# Altium footprint library VOU_SOM_CV_V0.0.1.PcbLib: 27 footprints (part 1 of 2)
Each footprint in its own frame and in the unit in brackets; x right, y up, seen from the top. Pads: shape width x height; smd on the part's side, far side on the other; paste and mask are expansions set on the pad; w line width, h text height; cw(c..) or ccw(c..) is an arc to the next point about the centre after c.
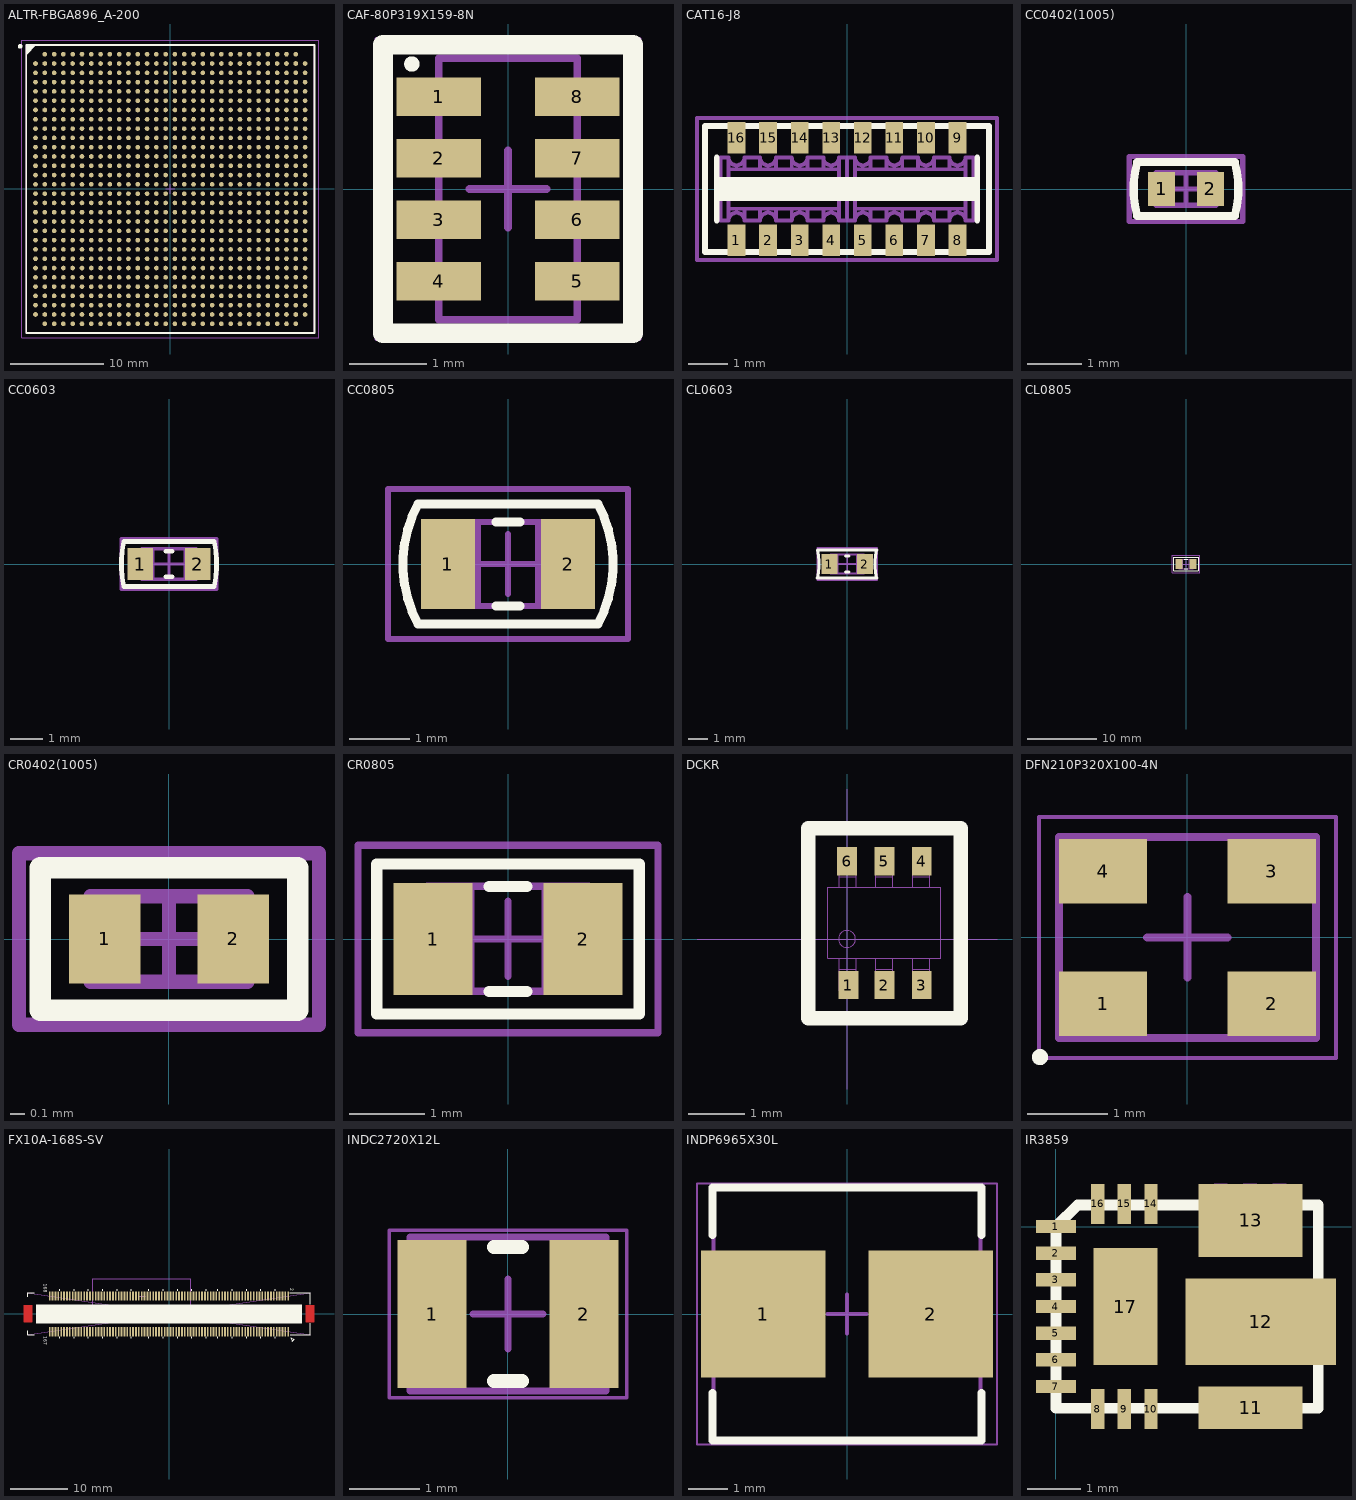
[diagram p0: the footprints below, top view; thin cyan lines are the x and y axes]

## ALTR-FBGA896_A-200 [mm]
pads (896):
  round 0.5 smd: A2(-13.5,14.5) A3(-12.5,14.5) A4(-11.5,14.5) A5(-10.5,14.5) A6(-9.5,14.5) A7(-8.5,14.5) A8(-7.5,14.5) A9(-6.5,14.5) A10(-5.5,14.5) A11(-4.5,14.5) A12(-3.5,14.5) A13(-2.5,14.5) A14(-1.5,14.5) A15(-0.5,14.5) A16(0.5,14.5) A17(1.5,14.5) A18(2.5,14.5) A19(3.5,14.5) A20(4.5,14.5) A21(5.5,14.5) A22(6.5,14.5) A23(7.5,14.5) A24(8.5,14.5) A25(9.5,14.5) A26(10.5,14.5) A27(11.5,14.5) A28(12.5,14.5) A29(13.5,14.5) AA1(-14.5,-5.5) AA2(-13.5,-5.5) AA3(-12.5,-5.5) AA4(-11.5,-5.5) AA5(-10.5,-5.5) AA6(-9.5,-5.5) AA7(-8.5,-5.5) AA8(-7.5,-5.5) AA9(-6.5,-5.5) AA10(-5.5,-5.5) AA11(-4.5,-5.5) AA12(-3.5,-5.5) AA13(-2.5,-5.5) AA14(-1.5,-5.5) AA15(-0.5,-5.5) AA16(0.5,-5.5) AA17(1.5,-5.5) AA18(2.5,-5.5) AA19(3.5,-5.5) AA20(4.5,-5.5) AA21(5.5,-5.5) AA22(6.5,-5.5) AA23(7.5,-5.5) AA24(8.5,-5.5) AA25(9.5,-5.5) AA26(10.5,-5.5) AA27(11.5,-5.5) AA28(12.5,-5.5) AA29(13.5,-5.5) AA30(14.5,-5.5) AB1(-14.5,-6.5) AB2(-13.5,-6.5) AB3(-12.5,-6.5) AB4(-11.5,-6.5) AB5(-10.5,-6.5) AB6(-9.5,-6.5) AB7(-8.5,-6.5) AB8(-7.5,-6.5) AB9(-6.5,-6.5) AB10(-5.5,-6.5) AB11(-4.5,-6.5) AB12(-3.5,-6.5) AB13(-2.5,-6.5) AB14(-1.5,-6.5) AB15(-0.5,-6.5) AB16(0.5,-6.5) AB17(1.5,-6.5) AB18(2.5,-6.5) AB19(3.5,-6.5) AB20(4.5,-6.5) AB21(5.5,-6.5) AB22(6.5,-6.5) AB23(7.5,-6.5) AB24(8.5,-6.5) AB25(9.5,-6.5) AB26(10.5,-6.5) AB27(11.5,-6.5) AB28(12.5,-6.5) AB29(13.5,-6.5) AB30(14.5,-6.5) AC1(-14.5,-7.5) AC2(-13.5,-7.5) AC3(-12.5,-7.5) AC4(-11.5,-7.5) AC5(-10.5,-7.5) AC6(-9.5,-7.5) AC7(-8.5,-7.5) AC8(-7.5,-7.5) AC9(-6.5,-7.5) AC10(-5.5,-7.5) AC11(-4.5,-7.5) AC12(-3.5,-7.5) AC13(-2.5,-7.5) AC14(-1.5,-7.5) AC15(-0.5,-7.5) AC16(0.5,-7.5) AC17(1.5,-7.5) AC18(2.5,-7.5) AC19(3.5,-7.5) AC20(4.5,-7.5) AC21(5.5,-7.5) AC22(6.5,-7.5) AC23(7.5,-7.5) AC24(8.5,-7.5) AC25(9.5,-7.5) AC26(10.5,-7.5) AC27(11.5,-7.5) AC28(12.5,-7.5) AC29(13.5,-7.5) AC30(14.5,-7.5) AD1(-14.5,-8.5) AD2(-13.5,-8.5) AD3(-12.5,-8.5) AD4(-11.5,-8.5) AD5(-10.5,-8.5) AD6(-9.5,-8.5) AD7(-8.5,-8.5) AD8(-7.5,-8.5) AD9(-6.5,-8.5) AD10(-5.5,-8.5) AD11(-4.5,-8.5) AD12(-3.5,-8.5) AD13(-2.5,-8.5) AD14(-1.5,-8.5) AD15(-0.5,-8.5) AD16(0.5,-8.5) AD17(1.5,-8.5) AD18(2.5,-8.5) AD19(3.5,-8.5) AD20(4.5,-8.5) AD21(5.5,-8.5) AD22(6.5,-8.5) AD23(7.5,-8.5) AD24(8.5,-8.5) AD25(9.5,-8.5) AD26(10.5,-8.5) AD27(11.5,-8.5) AD28(12.5,-8.5) AD29(13.5,-8.5) AD30(14.5,-8.5) AE1(-14.5,-9.5) AE2(-13.5,-9.5) AE3(-12.5,-9.5) AE4(-11.5,-9.5) AE5(-10.5,-9.5) AE6(-9.5,-9.5) AE7(-8.5,-9.5) AE8(-7.5,-9.5) AE9(-6.5,-9.5) AE10(-5.5,-9.5) AE11(-4.5,-9.5) AE12(-3.5,-9.5) AE13(-2.5,-9.5) AE14(-1.5,-9.5) AE15(-0.5,-9.5) AE16(0.5,-9.5) AE17(1.5,-9.5) AE18(2.5,-9.5) AE19(3.5,-9.5) AE20(4.5,-9.5) AE21(5.5,-9.5) AE22(6.5,-9.5) AE23(7.5,-9.5) AE24(8.5,-9.5) AE25(9.5,-9.5) AE26(10.5,-9.5) AE27(11.5,-9.5) AE28(12.5,-9.5) AE29(13.5,-9.5) AE30(14.5,-9.5) AF1(-14.5,-10.5) AF2(-13.5,-10.5) AF3(-12.5,-10.5) AF4(-11.5,-10.5) AF5(-10.5,-10.5) AF6(-9.5,-10.5) AF7(-8.5,-10.5) AF8(-7.5,-10.5) AF9(-6.5,-10.5) AF10(-5.5,-10.5) AF11(-4.5,-10.5) AF12(-3.5,-10.5) AF13(-2.5,-10.5) AF14(-1.5,-10.5) AF15(-0.5,-10.5) AF16(0.5,-10.5) AF17(1.5,-10.5) AF18(2.5,-10.5) AF19(3.5,-10.5) AF20(4.5,-10.5) AF21(5.5,-10.5) AF22(6.5,-10.5) AF23(7.5,-10.5) AF24(8.5,-10.5) AF25(9.5,-10.5) AF26(10.5,-10.5) AF27(11.5,-10.5) AF28(12.5,-10.5) AF29(13.5,-10.5) AF30(14.5,-10.5) AG1(-14.5,-11.5) AG2(-13.5,-11.5) AG3(-12.5,-11.5) AG4(-11.5,-11.5) AG5(-10.5,-11.5) AG6(-9.5,-11.5) AG7(-8.5,-11.5) AG8(-7.5,-11.5) AG9(-6.5,-11.5) AG10(-5.5,-11.5) AG11(-4.5,-11.5) AG12(-3.5,-11.5) AG13(-2.5,-11.5) AG14(-1.5,-11.5) AG15(-0.5,-11.5) AG16(0.5,-11.5) AG17(1.5,-11.5) AG18(2.5,-11.5) AG19(3.5,-11.5) AG20(4.5,-11.5) AG21(5.5,-11.5) AG22(6.5,-11.5) AG23(7.5,-11.5) AG24(8.5,-11.5) AG25(9.5,-11.5) AG26(10.5,-11.5) AG27(11.5,-11.5) AG28(12.5,-11.5) AG29(13.5,-11.5) AG30(14.5,-11.5) AH1(-14.5,-12.5) AH2(-13.5,-12.5) AH3(-12.5,-12.5) AH4(-11.5,-12.5) AH5(-10.5,-12.5) AH6(-9.5,-12.5) AH7(-8.5,-12.5) AH8(-7.5,-12.5) AH9(-6.5,-12.5) AH10(-5.5,-12.5) AH11(-4.5,-12.5) AH12(-3.5,-12.5) AH13(-2.5,-12.5) AH14(-1.5,-12.5) AH15(-0.5,-12.5) AH16(0.5,-12.5) AH17(1.5,-12.5) AH18(2.5,-12.5) AH19(3.5,-12.5) AH20(4.5,-12.5) AH21(5.5,-12.5) AH22(6.5,-12.5) AH23(7.5,-12.5) AH24(8.5,-12.5) AH25(9.5,-12.5) AH26(10.5,-12.5) AH27(11.5,-12.5) AH28(12.5,-12.5) AH29(13.5,-12.5) AH30(14.5,-12.5) AJ1(-14.5,-13.5) AJ2(-13.5,-13.5) AJ3(-12.5,-13.5) AJ4(-11.5,-13.5) AJ5(-10.5,-13.5) AJ6(-9.5,-13.5) AJ7(-8.5,-13.5) AJ8(-7.5,-13.5) AJ9(-6.5,-13.5) AJ10(-5.5,-13.5) AJ11(-4.5,-13.5) AJ12(-3.5,-13.5) AJ13(-2.5,-13.5) AJ14(-1.5,-13.5) AJ15(-0.5,-13.5) AJ16(0.5,-13.5) AJ17(1.5,-13.5) AJ18(2.5,-13.5) AJ19(3.5,-13.5) AJ20(4.5,-13.5) AJ21(5.5,-13.5) AJ22(6.5,-13.5) AJ23(7.5,-13.5) AJ24(8.5,-13.5) AJ25(9.5,-13.5) AJ26(10.5,-13.5) AJ27(11.5,-13.5) AJ28(12.5,-13.5) AJ29(13.5,-13.5) AJ30(14.5,-13.5) AK2(-13.5,-14.5) AK3(-12.5,-14.5) AK4(-11.5,-14.5) AK5(-10.5,-14.5) AK6(-9.5,-14.5) AK7(-8.5,-14.5) AK8(-7.5,-14.5) AK9(-6.5,-14.5) AK10(-5.5,-14.5) AK11(-4.5,-14.5) AK12(-3.5,-14.5) AK13(-2.5,-14.5) AK14(-1.5,-14.5) AK15(-0.5,-14.5) AK16(0.5,-14.5) AK17(1.5,-14.5) AK18(2.5,-14.5) AK19(3.5,-14.5) AK20(4.5,-14.5) AK21(5.5,-14.5) AK22(6.5,-14.5) AK23(7.5,-14.5) AK24(8.5,-14.5) AK25(9.5,-14.5) AK26(10.5,-14.5) AK27(11.5,-14.5) AK28(12.5,-14.5) AK29(13.5,-14.5) B1(-14.5,13.5) B2(-13.5,13.5) B3(-12.5,13.5) B4(-11.5,13.5) B5(-10.5,13.5) B6(-9.5,13.5) B7(-8.5,13.5) B8(-7.5,13.5) B9(-6.5,13.5) B10(-5.5,13.5) B11(-4.5,13.5) B12(-3.5,13.5) B13(-2.5,13.5) B14(-1.5,13.5) B15(-0.5,13.5) B16(0.5,13.5) B17(1.5,13.5) B18(2.5,13.5) B19(3.5,13.5) B20(4.5,13.5) B21(5.5,13.5) B22(6.5,13.5) B23(7.5,13.5) B24(8.5,13.5) B25(9.5,13.5) B26(10.5,13.5) B27(11.5,13.5) B28(12.5,13.5) B29(13.5,13.5) B30(14.5,13.5) C1(-14.5,12.5) C2(-13.5,12.5) C3(-12.5,12.5) C4(-11.5,12.5) C5(-10.5,12.5) C6(-9.5,12.5) C7(-8.5,12.5) C8(-7.5,12.5) C9(-6.5,12.5) C10(-5.5,12.5) C11(-4.5,12.5) C12(-3.5,12.5) C13(-2.5,12.5) C14(-1.5,12.5) C15(-0.5,12.5) C16(0.5,12.5) C17(1.5,12.5) C18(2.5,12.5) C19(3.5,12.5) C20(4.5,12.5) C21(5.5,12.5) C22(6.5,12.5) C23(7.5,12.5) C24(8.5,12.5) C25(9.5,12.5) C26(10.5,12.5) C27(11.5,12.5) C28(12.5,12.5) C29(13.5,12.5) C30(14.5,12.5) D1(-14.5,11.5) D2(-13.5,11.5) D3(-12.5,11.5) D4(-11.5,11.5) D5(-10.5,11.5) D6(-9.5,11.5) D7(-8.5,11.5) D8(-7.5,11.5) D9(-6.5,11.5) D10(-5.5,11.5) D11(-4.5,11.5) D12(-3.5,11.5) D13(-2.5,11.5) D14(-1.5,11.5) D15(-0.5,11.5) D16(0.5,11.5) D17(1.5,11.5) D18(2.5,11.5) D19(3.5,11.5) D20(4.5,11.5) D21(5.5,11.5) D22(6.5,11.5) D23(7.5,11.5) D24(8.5,11.5) D25(9.5,11.5) D26(10.5,11.5) D27(11.5,11.5) D28(12.5,11.5) D29(13.5,11.5) D30(14.5,11.5) E1(-14.5,10.5) E2(-13.5,10.5) E3(-12.5,10.5) E4(-11.5,10.5) E5(-10.5,10.5) E6(-9.5,10.5) E7(-8.5,10.5) E8(-7.5,10.5) E9(-6.5,10.5) E10(-5.5,10.5) E11(-4.5,10.5) E12(-3.5,10.5) E13(-2.5,10.5) E14(-1.5,10.5) E15(-0.5,10.5) E16(0.5,10.5) E17(1.5,10.5) E18(2.5,10.5) E19(3.5,10.5) E20(4.5,10.5) E21(5.5,10.5) E22(6.5,10.5) E23(7.5,10.5) E24(8.5,10.5) E25(9.5,10.5) E26(10.5,10.5) E27(11.5,10.5) E28(12.5,10.5) E29(13.5,10.5) E30(14.5,10.5) F1(-14.5,9.5) F2(-13.5,9.5) F3(-12.5,9.5) F4(-11.5,9.5) F5(-10.5,9.5) F6(-9.5,9.5) F7(-8.5,9.5) F8(-7.5,9.5) F9(-6.5,9.5) F10(-5.5,9.5) F11(-4.5,9.5) F12(-3.5,9.5) F13(-2.5,9.5) F14(-1.5,9.5) F15(-0.5,9.5) F16(0.5,9.5) F17(1.5,9.5) F18(2.5,9.5) F19(3.5,9.5) F20(4.5,9.5) F21(5.5,9.5) F22(6.5,9.5) F23(7.5,9.5) F24(8.5,9.5) F25(9.5,9.5) F26(10.5,9.5) F27(11.5,9.5) F28(12.5,9.5) F29(13.5,9.5) F30(14.5,9.5) G1(-14.5,8.5) G2(-13.5,8.5) G3(-12.5,8.5) G4(-11.5,8.5) G5(-10.5,8.5) G6(-9.5,8.5) G7(-8.5,8.5) G8(-7.5,8.5) G9(-6.5,8.5) G10(-5.5,8.5) G11(-4.5,8.5) G12(-3.5,8.5) G13(-2.5,8.5) G14(-1.5,8.5) G15(-0.5,8.5) G16(0.5,8.5) G17(1.5,8.5) G18(2.5,8.5) G19(3.5,8.5) G20(4.5,8.5) G21(5.5,8.5) G22(6.5,8.5) G23(7.5,8.5) G24(8.5,8.5) G25(9.5,8.5) G26(10.5,8.5) G27(11.5,8.5) G28(12.5,8.5) G29(13.5,8.5) G30(14.5,8.5) H1(-14.5,7.5) H2(-13.5,7.5) H3(-12.5,7.5) H4(-11.5,7.5) H5(-10.5,7.5) H6(-9.5,7.5) H7(-8.5,7.5) H8(-7.5,7.5) H9(-6.5,7.5) H10(-5.5,7.5) H11(-4.5,7.5) H12(-3.5,7.5) H13(-2.5,7.5) H14(-1.5,7.5) H15(-0.5,7.5) H16(0.5,7.5) H17(1.5,7.5) H18(2.5,7.5) H19(3.5,7.5) H20(4.5,7.5) H21(5.5,7.5) H22(6.5,7.5) H23(7.5,7.5) H24(8.5,7.5) H25(9.5,7.5) H26(10.5,7.5) H27(11.5,7.5) H28(12.5,7.5) H29(13.5,7.5) H30(14.5,7.5) J1(-14.5,6.5) J2(-13.5,6.5) J3(-12.5,6.5) J4(-11.5,6.5) J5(-10.5,6.5) J6(-9.5,6.5) J7(-8.5,6.5) J8(-7.5,6.5) J9(-6.5,6.5) J10(-5.5,6.5) J11(-4.5,6.5) J12(-3.5,6.5) J13(-2.5,6.5) J14(-1.5,6.5) J15(-0.5,6.5) J16(0.5,6.5) J17(1.5,6.5) J18(2.5,6.5) J19(3.5,6.5) J20(4.5,6.5) J21(5.5,6.5) J22(6.5,6.5) J23(7.5,6.5) J24(8.5,6.5) J25(9.5,6.5) J26(10.5,6.5) J27(11.5,6.5) J28(12.5,6.5) J29(13.5,6.5) J30(14.5,6.5) K1(-14.5,5.5) K2(-13.5,5.5) K3(-12.5,5.5) K4(-11.5,5.5) K5(-10.5,5.5) K6(-9.5,5.5) K7(-8.5,5.5) K8(-7.5,5.5) K9(-6.5,5.5) K10(-5.5,5.5) K11(-4.5,5.5) K12(-3.5,5.5) K13(-2.5,5.5) K14(-1.5,5.5) K15(-0.5,5.5) K16(0.5,5.5) K17(1.5,5.5) K18(2.5,5.5) K19(3.5,5.5) K20(4.5,5.5) K21(5.5,5.5) K22(6.5,5.5) K23(7.5,5.5) K24(8.5,5.5) K25(9.5,5.5) K26(10.5,5.5) K27(11.5,5.5) K28(12.5,5.5) K29(13.5,5.5) K30(14.5,5.5) L1(-14.5,4.5) L2(-13.5,4.5) L3(-12.5,4.5) L4(-11.5,4.5) L5(-10.5,4.5) L6(-9.5,4.5) L7(-8.5,4.5) L8(-7.5,4.5) L9(-6.5,4.5) L10(-5.5,4.5) L11(-4.5,4.5) L12(-3.5,4.5) L13(-2.5,4.5) L14(-1.5,4.5) L15(-0.5,4.5) L16(0.5,4.5) L17(1.5,4.5) L18(2.5,4.5) L19(3.5,4.5) L20(4.5,4.5) L21(5.5,4.5) L22(6.5,4.5) L23(7.5,4.5) L24(8.5,4.5) L25(9.5,4.5) L26(10.5,4.5) L27(11.5,4.5) L28(12.5,4.5) L29(13.5,4.5) L30(14.5,4.5) M1(-14.5,3.5) M2(-13.5,3.5) M3(-12.5,3.5) M4(-11.5,3.5) M5(-10.5,3.5) M6(-9.5,3.5) M7(-8.5,3.5) M8(-7.5,3.5) M9(-6.5,3.5) M10(-5.5,3.5) M11(-4.5,3.5) M12(-3.5,3.5) M13(-2.5,3.5) M14(-1.5,3.5) M15(-0.5,3.5) M16(0.5,3.5) M17(1.5,3.5) M18(2.5,3.5) M19(3.5,3.5) M20(4.5,3.5) M21(5.5,3.5) M22(6.5,3.5) M23(7.5,3.5) M24(8.5,3.5) M25(9.5,3.5) M26(10.5,3.5) M27(11.5,3.5) M28(12.5,3.5) M29(13.5,3.5) M30(14.5,3.5) N1(-14.5,2.5) N2(-13.5,2.5) N3(-12.5,2.5) N4(-11.5,2.5) N5(-10.5,2.5) N6(-9.5,2.5) N7(-8.5,2.5) N8(-7.5,2.5) N9(-6.5,2.5) N10(-5.5,2.5) N11(-4.5,2.5) N12(-3.5,2.5) N13(-2.5,2.5) N14(-1.5,2.5) N15(-0.5,2.5) N16(0.5,2.5) N17(1.5,2.5) N18(2.5,2.5) N19(3.5,2.5) N20(4.5,2.5) N21(5.5,2.5) N22(6.5,2.5) N23(7.5,2.5) N24(8.5,2.5) N25(9.5,2.5) N26(10.5,2.5) N27(11.5,2.5) N28(12.5,2.5) N29(13.5,2.5) N30(14.5,2.5) P1(-14.5,1.5) P2(-13.5,1.5) P3(-12.5,1.5) P4(-11.5,1.5) P5(-10.5,1.5) P6(-9.5,1.5) P7(-8.5,1.5) P8(-7.5,1.5) P9(-6.5,1.5) P10(-5.5,1.5) P11(-4.5,1.5) P12(-3.5,1.5) P13(-2.5,1.5) P14(-1.5,1.5) P15(-0.5,1.5) P16(0.5,1.5) P17(1.5,1.5) P18(2.5,1.5) P19(3.5,1.5) P20(4.5,1.5) P21(5.5,1.5) P22(6.5,1.5) P23(7.5,1.5) P24(8.5,1.5) P25(9.5,1.5) P26(10.5,1.5) P27(11.5,1.5) P28(12.5,1.5) P29(13.5,1.5) P30(14.5,1.5) R1(-14.5,0.5) R2(-13.5,0.5) R3(-12.5,0.5) R4(-11.5,0.5) R5(-10.5,0.5) R6(-9.5,0.5) R7(-8.5,0.5) R8(-7.5,0.5) R9(-6.5,0.5) R10(-5.5,0.5) R11(-4.5,0.5) R12(-3.5,0.5) R13(-2.5,0.5) R14(-1.5,0.5) R15(-0.5,0.5) R16(0.5,0.5) R17(1.5,0.5) R18(2.5,0.5) R19(3.5,0.5) R20(4.5,0.5) R21(5.5,0.5) R22(6.5,0.5) R23(7.5,0.5) R24(8.5,0.5) R25(9.5,0.5) R26(10.5,0.5) R27(11.5,0.5) R28(12.5,0.5) R29(13.5,0.5) R30(14.5,0.5) T1(-14.5,-0.5) T2(-13.5,-0.5) T3(-12.5,-0.5) T4(-11.5,-0.5) T5(-10.5,-0.5) T6(-9.5,-0.5) T7(-8.5,-0.5) T8(-7.5,-0.5) T9(-6.5,-0.5) T10(-5.5,-0.5) T11(-4.5,-0.5) T12(-3.5,-0.5) T13(-2.5,-0.5) T14(-1.5,-0.5) T15(-0.5,-0.5) T16(0.5,-0.5) T17(1.5,-0.5) T18(2.5,-0.5) T19(3.5,-0.5) T20(4.5,-0.5) T21(5.5,-0.5) T22(6.5,-0.5) T23(7.5,-0.5) T24(8.5,-0.5) T25(9.5,-0.5) T26(10.5,-0.5) T27(11.5,-0.5) T28(12.5,-0.5) T29(13.5,-0.5) T30(14.5,-0.5) U1(-14.5,-1.5) U2(-13.5,-1.5) U3(-12.5,-1.5) U4(-11.5,-1.5) U5(-10.5,-1.5) U6(-9.5,-1.5) U7(-8.5,-1.5) U8(-7.5,-1.5) U9(-6.5,-1.5) U10(-5.5,-1.5) U11(-4.5,-1.5) U12(-3.5,-1.5) U13(-2.5,-1.5) U14(-1.5,-1.5) U15(-0.5,-1.5) U16(0.5,-1.5) U17(1.5,-1.5) U18(2.5,-1.5) U19(3.5,-1.5) U20(4.5,-1.5) U21(5.5,-1.5) U22(6.5,-1.5) U23(7.5,-1.5) U24(8.5,-1.5) U25(9.5,-1.5) U26(10.5,-1.5) U27(11.5,-1.5) U28(12.5,-1.5) U29(13.5,-1.5) U30(14.5,-1.5) V1(-14.5,-2.5) V2(-13.5,-2.5) V3(-12.5,-2.5) V4(-11.5,-2.5) V5(-10.5,-2.5) V6(-9.5,-2.5) V7(-8.5,-2.5) V8(-7.5,-2.5) V9(-6.5,-2.5) V10(-5.5,-2.5) V11(-4.5,-2.5) V12(-3.5,-2.5) V13(-2.5,-2.5) V14(-1.5,-2.5) V15(-0.5,-2.5) V16(0.5,-2.5) V17(1.5,-2.5) V18(2.5,-2.5) V19(3.5,-2.5) V20(4.5,-2.5) V21(5.5,-2.5) V22(6.5,-2.5) V23(7.5,-2.5) V24(8.5,-2.5) V25(9.5,-2.5) V26(10.5,-2.5) V27(11.5,-2.5) V28(12.5,-2.5) V29(13.5,-2.5) V30(14.5,-2.5) W1(-14.5,-3.5) W2(-13.5,-3.5) W3(-12.5,-3.5) W4(-11.5,-3.5) W5(-10.5,-3.5) W6(-9.5,-3.5) W7(-8.5,-3.5) W8(-7.5,-3.5) W9(-6.5,-3.5) W10(-5.5,-3.5) W11(-4.5,-3.5) W12(-3.5,-3.5) W13(-2.5,-3.5) W14(-1.5,-3.5) W15(-0.5,-3.5) W16(0.5,-3.5) W17(1.5,-3.5) W18(2.5,-3.5) W19(3.5,-3.5) W20(4.5,-3.5) W21(5.5,-3.5) W22(6.5,-3.5) W23(7.5,-3.5) W24(8.5,-3.5) W25(9.5,-3.5) W26(10.5,-3.5) W27(11.5,-3.5) W28(12.5,-3.5) W29(13.5,-3.5) W30(14.5,-3.5) Y1(-14.5,-4.5) Y2(-13.5,-4.5) Y3(-12.5,-4.5) Y4(-11.5,-4.5) Y5(-10.5,-4.5) Y6(-9.5,-4.5) Y7(-8.5,-4.5) Y8(-7.5,-4.5) Y9(-6.5,-4.5) Y10(-5.5,-4.5) Y11(-4.5,-4.5) Y12(-3.5,-4.5) Y13(-2.5,-4.5) Y14(-1.5,-4.5) Y15(-0.5,-4.5) Y16(0.5,-4.5) Y17(1.5,-4.5) Y18(2.5,-4.5) Y19(3.5,-4.5) Y20(4.5,-4.5) Y21(5.5,-4.5) Y22(6.5,-4.5) Y23(7.5,-4.5) Y24(8.5,-4.5) Y25(9.5,-4.5) Y26(10.5,-4.5) Y27(11.5,-4.5) Y28(12.5,-4.5) Y29(13.5,-4.5) Y30(14.5,-4.5)
Top Overlay:
  circle w0.25: c-16.15,15.35 r0.125
  region: -14.5,15.5 -15.5,14.5 -15.5,15.5
  lines w0.2: -15.5,14.5 -14.5,15.5 ; -15.5,-15.5 -15.5,15.5 15.5,15.5 15.5,-15.5 -15.5,-15.5
Mechanical 13:
  lines w0.1: -15.5,-15.5 -15.5,15.5 15.5,15.5 15.5,-15.5 -15.5,-15.5
Mechanical 15:
  lines w0.05: -16,-16 -16,16 16,16 16,-16 -16,-16
  lines w0.1: -0.5,0 0.5,0 ; 0,-0.5 0,0.5
3D body: height 2, standoff 0.4, extent -15.5,-15.5 15.5,15.5

## CAF-80P319X159-8N [mm]
pads (8):
  rect 1.1x0.5 smd: 1(-0.9,1.2) 2(-0.9,0.4) 3(-0.9,-0.4) 4(-0.9,-1.2) 5(0.9,-1.2) 6(0.9,-0.4) 7(0.9,0.4) 8(0.9,1.2)
Top Overlay:
  circle w0.1: c-1.25,1.625 r0.05
  lines w0.254: -1.625,-1.875 1.625,-1.875 1.625,1.875 -1.625,1.875 -1.625,-1.875
Mechanical 13:
  lines w0.1: -0.9,-1.7 -0.9,1.7 0.9,1.7 0.9,-1.7 -0.9,-1.7
Mechanical 15:
  lines w0.05: -1.71,-1.95 -1.71,1.95 1.71,1.95 1.71,-1.95 -1.71,-1.95
  lines w0.1: -0.5,0 0.5,0 ; 0,-0.5 0,0.5
Mechanical 17:
  text ".Designator" at -1.8,2.35 h2.1
3D body: height 1, standoff 0, extent -0.9,-1.7 0.9,1.7

## CAT16-J8 [mm]
pads (16):
  rect 0.45x0.8 smd: 1(-2.8,-1.3) 2(-2,-1.3) 3(-1.2,-1.3) 4(-0.4,-1.3) 5(0.4,-1.3) 6(1.2,-1.3) 7(2,-1.3) 8(2.8,-1.3) 9(2.8,1.3) 10(2,1.3) 11(1.2,1.3) 12(0.4,1.3) 13(-0.4,1.3) 14(-1.2,1.3) 15(-2,1.3) 16(-2.8,1.3)
Top Overlay:
  rectangle: -3.3,-0.3 3.225,0.3
  lines w0.15: -3.3,-0.8 -3.3,0.8 ; 3.3,-0.8 3.3,0.8 ; -3.6,-1.6 -3.6,1.6 3.6,1.6 3.6,-1.6 -3.6,-1.6
Mechanical 13:
  lines w0.1: -2.6,-0.5 -2.6,-0.8 ; -2.6,0.5 -2.6,0.8 ; -2.2,-0.5 -2.2,-0.8 ; -2.2,0.5 -2.2,0.8 ; -1.8,-0.5 -1.8,-0.8 ; -1.8,0.5 -1.8,0.8 ; -1.4,-0.5 -1.4,-0.8 ; -1.4,0.5 -1.4,0.8 ; -1,-0.5 -1,-0.8 ; -1,0.5 -1,0.8 ; -0.6,-0.5 -0.6,-0.8 ; -0.6,0.5 -0.6,0.8 ; 0.6,-0.5 0.6,-0.8 ; 0.6,0.5 0.6,0.8 ; 1,-0.5 1,-0.8 ; 1,0.5 1,0.8 ; 1.4,-0.5 1.4,-0.8 ; 1.4,0.5 1.4,0.8 ; 1.8,-0.5 1.8,-0.8 ; 1.8,0.5 1.8,0.8 ; 2.2,-0.5 2.2,-0.8 ; 2.2,0.5 2.2,0.8 ; 2.6,-0.5 2.6,-0.8 ; 2.6,0.5 2.6,0.8 ; -3,-0.8 cw(c-2.8,-0.8) -2.6,-0.8 ; -3,-0.8 -3.2,-0.8 -3.2,0.8 -3,0.8 ; -3,-0.8 -3,-0.5 ; -3,-0.5 -3,0.5 ; -3,-0.5 -0.2,-0.5 ; -3,0.5 -0.2,0.5 ; -3,0.5 -0.2,0.5 ; -3,0.5 -3,0.8 ; -3,0.8 ccw(c-2.8,0.8) -2.6,0.8 ; -2.6,-0.8 -2.2,-0.8 ; -2.6,0.8 -2.2,0.8 ; -2.2,-0.8 cw(c-2,-0.8) -1.8,-0.8 ; -2.2,0.8 ccw(c-2,0.8) -1.8,0.8 ; -1.8,-0.8 -1.4,-0.8 ; -1.8,0.8 -1.4,0.8 ; -1.4,-0.8 cw(c-1.2,-0.8) -1,-0.8 ; -1.4,0.8 ccw(c-1.2,0.8) -1,0.8 ; -1,-0.8 -0.6,-0.8 ; -1,0.8 -0.6,0.8 ; -0.6,-0.8 cw(c-0.4,-0.8) -0.2,-0.8 ; -0.6,0.8 ccw(c-0.4,0.8) -0.2,0.8 ; -0.2,-0.8 0,-0.8 ; -0.2,-0.8 -0.2,-0.5 ; -0.2,-0.5 -0.2,0.5 ; -0.2,0.5 -0.2,0.8 ; -0.2,0.8 0,0.8 ; 0,-0.8 0,0.8 ; 0,-0.8 0,0.8 ; 0,-0.8 0.2,-0.8 ; 0,0.8 0.2,0.8 ; 0.2,-0.8 cw(c0.4,-0.8) 0.6,-0.8 ; 0.2,-0.8 0.2,-0.5 ; 0.2,-0.5 3,-0.5 ; 0.2,-0.5 0.2,0.5 ; 0.2,0.5 0.2,0.8 ; 0.2,0.5 3,0.5 ; 0.2,0.5 3,0.5 ; 0.2,0.8 ccw(c0.4,0.8) 0.6,0.8 ; 0.6,-0.8 1,-0.8 ; 0.6,0.8 1,0.8 ; 1,-0.8 cw(c1.2,-0.8) 1.4,-0.8 ; 1,0.8 ccw(c1.2,0.8) 1.4,0.8 ; 1.4,-0.8 1.8,-0.8 ; 1.4,0.8 1.8,0.8 ; 1.8,-0.8 cw(c2,-0.8) 2.2,-0.8 ; 1.8,0.8 ccw(c2,0.8) 2.2,0.8 ; 2.2,-0.8 2.6,-0.8 ; 2.2,0.8 2.6,0.8 ; 2.6,-0.8 cw(c2.8,-0.8) 3,-0.8 ; 2.6,0.8 ccw(c2.8,0.8) 3,0.8 ; 3,-0.8 3,-0.5 ; 3,-0.8 3.2,-0.8 3.2,0.8 3,0.8 ; 3,-0.5 3,0.5 ; 3,0.5 3,0.8
Mechanical 15:
  lines w0.1: -0.4,0 0.4,0 ; 0,-0.5 0,0.5 ; -3.8,-1.8 -3.8,1.8 3.8,1.8 3.8,-1.8 -3.8,-1.8
Mechanical 17:
  text ".Designator" at -3.775,2.1 h2.1
3D body "CAT16-J4.STEP": height 0.31, standoff 0, extent -3.2,-0.78 0,0.78
3D body "CAT16-J4.STEP": height 0.31, standoff 0, extent 0,-0.78 3.2,0.78

## CC0402(1005) [mm]
pads (2):
  rect 0.5x0.62 smd: 1(-0.45,0) 2(0.45,0)
Top Overlay:
  lines w0.15: -0.9,-0.5 cw(c0.9,0) -0.9,0.5 0.9,0.5 cw(c-0.9,0) 0.9,-0.5 -0.9,-0.5
Mechanical 13:
  lines w0.1: -0.3,-0.3 -0.3,0.3 ; 0.3,-0.3 0.3,0.3 ; -0.55,-0.3 0.55,-0.3 0.55,0.3 -0.55,0.3 -0.55,-0.3
Mechanical 15:
  lines w0.1: -0.3,0 0.3,0 ; 0,-0.3 0,0.3 ; -1.05,-0.6 -1.05,0.6 1.05,0.6 1.05,-0.6 -1.05,-0.6
Mechanical 16:
  lines w0.1: -1.05,-0.6 1.05,-0.6 1.05,0.6 -1.05,0.6 -1.05,-0.6
Mechanical 17:
  text ".Designator" at -0.85,-0.325 h1.1
3D body "CC0402.step": height 0.2, standoff 0, extent -0.5,-0.3 0.5,0.3

## CC0603 [mm]
pads (2):
  rect 0.8x1 smd: 1(-0.9,0) 2(0.9,0)
Top Overlay:
  lines w0.15: -1.411,-0.703 cw(c1.6,0) -1.411,0.703 ; -1.4,-0.7 1.4,-0.7 ; -1.4,0.7 1.4,0.7 ; -0.1,-0.4 0.1,-0.4 ; -0.1,0.4 0.1,0.4 ; 1.411,-0.703 ccw(c-1.6,0) 1.411,0.703
Mechanical 13:
  lines w0.1: -0.5,-0.475 -0.5,0.475 ; 0.5,-0.475 0.5,0.475 ; -0.85,-0.475 0.85,-0.475 0.85,0.475 -0.85,0.475 -0.85,-0.475
Mechanical 15:
  lines w0.1: -1.5,-0.7 1.5,-0.7 ; -0.475,0 0.475,0 ; 0,-0.475 0,0.475 ; -1.5,-0.8 -1.5,0.8 1.5,0.8 1.5,-0.8 -1.5,-0.8
Mechanical 16:
  lines w0.1: -1.5,-0.8 -1.5,0.8 1.5,0.8 1.5,-0.8 -1.5,-0.8
Mechanical 17:
  text ".Designator" at -1.15,-0.3 h1.1
3D body "CC0603.STEP": height 0.46, standoff 0, extent -0.81,-0.425 0.81,0.425

## CC0805 [mm]
pads (2):
  rect 0.9x1.5 smd: 1(-1,0) 2(1,0)
Top Overlay:
  lines w0.15: -0.2,-0.7 0.2,-0.7 ; -0.2,0.7 0.2,0.7 ; -1.5,-1 cw(c0.375,0) -1.5,1 1.5,1 cw(c-0.375,0) 1.5,-1 -1.5,-1
Mechanical 13:
  lines w0.1: -0.5,-0.7 -0.5,0.7 ; 0.5,-0.7 0.5,0.7 ; -1.075,-0.7 -1.075,0.7 1.075,0.7 1.075,-0.7 -1.075,-0.7
Mechanical 15:
  lines w0.1: -0.5,0 0.5,0 ; 0,-0.5 0,0.5 ; -2,-1.25 -2,1.25 2,1.25 2,-1.25 -2,-1.25
Mechanical 16:
  lines w0.1: -2,-1.25 2,-1.25 2,1.25 -2,1.25 -2,-1.25
Mechanical 17:
  text ".Designator" at -1.625,-0.425 h1.6
3D body "CC0805.STEP": height 1.3, standoff 0, extent -1,-0.625 1,0.625

## CL0603 [mm]
pads (2):
  rect 0.8x1 smd: 1(-0.9,0) 2(0.9,0)
Top Overlay:
  lines w0.15: -1.525,-0.7 1.5,-0.7 ; -1.514,-0.703 ccw(c-4.525,0) -1.514,0.703 ; -1.5,0.7 1.5,0.7 ; -0.1,-0.4 0.1,-0.4 ; -0.1,0.4 0.1,0.4 ; 1.489,-0.703 cw(c4.5,0) 1.489,0.703
Mechanical 13:
  lines w0.1: -0.5,-0.475 -0.5,0.475 ; 0.5,-0.475 0.5,0.475 ; -0.85,-0.475 -0.85,0.475 0.85,0.475 0.85,-0.475 -0.85,-0.475
Mechanical 15:
  lines w0.1: -1.5,-0.8 1.5,-0.8 ; -0.475,0 0.475,0 ; 0,-0.475 0,0.475 ; -1.5,-0.725 1.5,-0.725 1.5,0.8 -1.5,0.8 -1.5,-0.725
Mechanical 16:
  lines w0.1: -1.5,-0.8 -1.5,0.8 1.5,0.8 1.5,-0.8 -1.5,-0.8
Mechanical 17:
  text ".Designator" at -1.25,-0.425 h1.4
3D body "CC0603.STEP": height 0.46, standoff 0, extent -0.81,-0.425 0.81,0.425

## CL0805 [mm]
pads (2):
  rect 1.05x1.5 smd: 1(-1,0) 2(1,0)
Top Overlay:
  lines w0.15: -1.8,-1 1.75,-1 ; -1.8,1 1.75,1 ; -1.79,1.001 cw(c-11.74,0) -1.788,-0.981 ; -0.25,-0.7 0.25,-0.7 ; -0.25,0.7 0.25,0.7 ; 1.788,0.981 ccw(c11.74,0) 1.79,-1.001
Mechanical 13:
  lines w0.1: -0.5,-0.7 -0.5,0.7 ; 0.5,-0.7 0.5,0.7 ; -1.075,-0.7 -1.075,0.7 1.075,0.7 1.075,-0.7 -1.075,-0.7
Mechanical 15:
  lines w0.1: -0.5,0 0.5,0 ; 0,-0.5 0,0.5 ; -2,-1.25 -2,1.25 2,1.25 2,-1.25 -2,-1.25
3D body "RC0805.STEP": height 0.4, standoff 0, extent -1,-0.6 1,0.6

## CR0402(1005) [mm]
pads (2):
  rect 0.5x0.62 smd: 1(-0.45,0) 2(0.45,0)
Top Overlay:
  lines w0.15: -0.9,-0.5 -0.9,0.5 0.9,0.5 0.9,-0.5 -0.9,-0.5
Mechanical 13:
  lines w0.1: -0.3,-0.3 -0.3,0.3 ; 0.3,-0.3 0.3,0.3 ; -0.55,-0.3 0.55,-0.3 0.55,0.3 -0.55,0.3 -0.55,-0.3
Mechanical 15:
  lines w0.1: -0.3,0 0.3,0 ; 0,-0.3 0,0.3 ; -1.05,-0.6 -1.05,0.6 1.05,0.6 1.05,-0.6 -1.05,-0.6
Mechanical 16:
  lines w0.1: -1.05,-0.6 1.05,-0.6 1.05,0.6 -1.05,0.6 -1.05,-0.6
Mechanical 17:
  text ".Designator" at -0.9,-0.375 h1.1
3D body "CR0402.step": height 0.41, standoff 0, extent -0.575,-0.275 0.575,0.275

## CR0805 [mm]
pads (2):
  rect 1.05x1.5 smd: 1(-1,0) 2(1,0)
Top Overlay:
  lines w0.15: -0.25,-0.7 0.25,-0.7 ; -0.25,0.7 0.25,0.7 ; -1.75,-1 1.75,-1 1.75,1 -1.75,1 -1.75,-1
Mechanical 13:
  lines w0.1: -0.5,-0.7 -0.5,0.7 ; 0.5,-0.7 0.5,0.7 ; -1.075,-0.7 -1.075,0.7 1.075,0.7 1.075,-0.7 -1.075,-0.7
Mechanical 15:
  lines w0.1: -0.5,0 0.5,0 ; 0,-0.5 0,0.5 ; -2,-1.25 -2,1.25 2,1.25 2,-1.25 -2,-1.25
Mechanical 16:
  lines w0.1: -2,-1.25 -2,1.25 2,1.25 2,-1.25 -2,-1.25
Mechanical 17:
  text ".Designator" at -1.55,-0.55 h1.8
3D body "RC0805.STEP": height 0.4, standoff 0, extent -1,-0.6 1,0.6

## DCKR [mm]
pads (6):
  rect 0.35x0.5 smd: 1(0.025,-0.813) 2(0.66,-0.813) 3(1.321,-0.813) 4(1.321,1.372) 5(0.66,1.372) 6(0,1.372)
Top Overlay:
  lines w0.254: -0.686,-1.397 2.007,-1.397 2.007,1.956 -0.686,1.956 -0.686,-1.092 -0.686,-1.397
Mechanical 1:
  circle w0.013: c0,0 r0.15
  lines w0.013: -2.65,0 -2.5,0 0,0 ; -0.14,-0.34 -0.14,-0.534 ; -0.14,0.91 -0.14,1.104 ; 0,-2.65 0,-2.5 0,0 ; 0,2.65 0,2.5 0,0 ; 0.16,-0.34 0.16,-0.534 ; 0.16,0.91 0.16,1.104 ; 0.51,-0.34 0.51,-0.534 ; 0.51,0.91 0.51,1.104 ; 0.81,-0.34 0.81,-0.534 ; 0.81,0.91 0.81,1.104 ; 1.16,-0.34 1.16,-0.534 ; 1.16,0.91 1.16,1.104 ; 1.46,-0.34 1.46,-0.534 ; 1.46,0.91 1.46,1.104 ; 2.65,0 2.5,0 0,0 ; -0.14,-0.787 -0.14,-0.711 ; -0.14,-0.787 -0.14,-0.915 0.16,-0.915 0.16,-0.787 ; -0.14,-0.787 0.16,-0.787 ; -0.14,-0.711 -0.14,-0.693 ; -0.14,-0.711 0.16,-0.711 ; -0.14,-0.693 -0.14,-0.534 ; -0.14,-0.693 0.16,-0.693 ; -0.14,-0.534 0.16,-0.534 ; -0.14,1.104 -0.14,1.263 ; -0.14,1.104 0.16,1.104 ; -0.14,1.263 -0.14,1.281 ; -0.14,1.263 0.16,1.263 ; -0.14,1.281 -0.14,1.357 ; -0.14,1.281 0.16,1.281 ; -0.14,1.357 -0.14,1.485 0.16,1.485 0.16,1.357 ; -0.14,1.357 0.16,1.357 ; 0.16,-0.787 0.16,-0.711 ; 0.16,-0.711 0.16,-0.693 ; 0.16,-0.693 0.16,-0.534 ; 0.16,1.104 0.16,1.263 ; 0.16,1.263 0.16,1.281 ; 0.16,1.281 0.16,1.357 ; 0.51,-0.787 0.51,-0.711 ; 0.51,-0.787 0.51,-0.915 0.81,-0.915 0.81,-0.787 ; 0.51,-0.787 0.81,-0.787 ; 0.51,-0.711 0.51,-0.693 ; 0.51,-0.711 0.81,-0.711 ; 0.51,-0.693 0.51,-0.534 ; 0.51,-0.693 0.81,-0.693 ; 0.51,-0.534 0.81,-0.534 ; 0.51,1.104 0.51,1.263 ; 0.51,1.104 0.81,1.104 ; 0.51,1.263 0.51,1.281 ; 0.51,1.263 0.81,1.263 ; 0.51,1.281 0.51,1.357 ; 0.51,1.281 0.81,1.281 ; 0.51,1.357 0.51,1.485 0.81,1.485 0.81,1.357 ; 0.51,1.357 0.81,1.357 ; 0.81,-0.787 0.81,-0.711 ; 0.81,-0.711 0.81,-0.693 ; 0.81,-0.693 0.81,-0.534 ; 0.81,1.104 0.81,1.263 ; 0.81,1.263 0.81,1.281 ; 0.81,1.281 0.81,1.357 ; 1.16,-0.787 1.16,-0.711 ; 1.16,-0.787 1.16,-0.915 1.46,-0.915 1.46,-0.787 ; 1.16,-0.787 1.46,-0.787 ; 1.16,-0.711 1.16,-0.693 ; 1.16,-0.711 1.46,-0.711 ; 1.16,-0.693 1.16,-0.534 ; 1.16,-0.693 1.46,-0.693 ; 1.16,-0.534 1.46,-0.534 ; 1.16,1.104 1.16,1.263 ; 1.16,1.104 1.46,1.104 ; 1.16,1.263 1.16,1.281 ; 1.16,1.263 1.46,1.263 ; 1.16,1.281 1.16,1.357 ; 1.16,1.281 1.46,1.281 ; 1.16,1.357 1.16,1.485 1.46,1.485 1.46,1.357 ; 1.16,1.357 1.46,1.357 ; 1.46,-0.787 1.46,-0.711 ; 1.46,-0.711 1.46,-0.693 ; 1.46,-0.693 1.46,-0.534 ; 1.46,1.104 1.46,1.263 ; 1.46,1.263 1.46,1.281 ; 1.46,1.281 1.46,1.357 ; -0.34,-0.34 -0.34,0.91 1.66,0.91 1.66,-0.34 -0.34,-0.34
Mechanical 17:
  text ".Designator" at -0.925,2.225 h2.1
3D body "User Library-R-PDSO-G6.STEP": height 1.1, standoff 0, extent -0.34,-0.921 1.66,1.479

## DFN210P320X100-4N [mm]
pads (4):
  rect 1.1x0.8 smd: 1(-1.05,-0.825) 2(1.05,-0.825) 3(1.05,0.825) 4(-1.05,0.825)
Top Overlay:
  circle w0.1: c-1.835,-1.49 r0.05
Mechanical 13:
  lines w0.1: -1.6,-1.25 -1.6,1.25 1.6,1.25 1.6,-1.25 -1.6,-1.25
Mechanical 15:
  lines w0.05: -1.85,-1.5 -1.85,1.5 1.85,1.5 1.85,-1.5 -1.85,-1.5
  lines w0.1: -0.5,0 0.5,0 ; 0,-0.5 0,0.5
3D body: height 1, standoff 0.05, extent -1.6,-1.25 1.6,1.25

## FX10A-168S-SV [mm]
pads (168):
  rect 0.3x1.6 smd mask+0.05: 1(20.745,-3.135) 2(20.745,3.105) 3(20.245,-3.135) 4(20.245,3.105) 5(19.745,-3.135) 6(19.745,3.105) 7(19.245,-3.135) 8(19.245,3.105) 9(18.745,-3.135) 10(18.745,3.105) 11(18.245,-3.135) 12(18.245,3.105) 13(17.745,-3.135) 14(17.745,3.105) 15(17.245,-3.135) 16(17.245,3.105) 17(16.745,-3.135) 18(16.745,3.105) 19(16.245,-3.135) 20(16.245,3.105) 21(15.745,-3.135) 22(15.745,3.105) 23(15.245,-3.135) 24(15.245,3.105) 25(14.745,-3.135) 26(14.745,3.105) 27(14.245,-3.135) 28(14.245,3.105) 29(13.745,-3.135) 30(13.745,3.105) 31(13.245,-3.135) 32(13.245,3.105) 33(12.745,-3.135) 34(12.745,3.105) 35(12.245,-3.135) 36(12.245,3.105) 37(11.745,-3.135) 38(11.745,3.105) 39(11.245,-3.135) 40(11.245,3.105) 41(10.745,-3.135) 42(10.745,3.105) 43(10.245,-3.135) 44(10.245,3.105) 45(9.745,-3.135) 46(9.745,3.105) 47(9.245,-3.135) 48(9.245,3.105) 49(8.745,-3.135) 50(8.745,3.105) 51(8.245,-3.135) 52(8.245,3.105) 53(7.745,-3.135) 54(7.745,3.105) 55(7.245,-3.135) 56(7.245,3.105) 57(6.745,-3.135) 58(6.745,3.105) 59(6.245,-3.135) 60(6.245,3.105) 61(5.745,-3.135) 62(5.745,3.105) 63(5.245,-3.135) 64(5.245,3.105) 65(4.745,-3.135) 66(4.745,3.105) 67(4.245,-3.135) 68(4.245,3.105) 69(3.745,-3.135) 70(3.745,3.105) 71(3.245,-3.135) 72(3.245,3.105) 73(2.745,-3.135) 74(2.745,3.105) 75(2.245,-3.135) 76(2.245,3.105) 77(1.745,-3.135) 78(1.745,3.105) 79(1.245,-3.135) 80(1.245,3.105) 81(0.745,-3.135) 82(0.745,3.105) 83(0.245,-3.135) 84(0.245,3.105) 85(-0.255,-3.135) 86(-0.255,3.105) 87(-0.755,-3.135) 88(-0.755,3.105) 89(-1.255,-3.135) 90(-1.255,3.105) 91(-1.755,-3.135) 92(-1.755,3.105) 93(-2.255,-3.135) 94(-2.255,3.105) 95(-2.755,-3.135) 96(-2.755,3.105) 97(-3.255,-3.135) 98(-3.255,3.105) 99(-3.755,-3.135) 100(-3.755,3.105) 101(-4.255,-3.135) 102(-4.255,3.105) 103(-4.755,-3.135) 104(-4.755,3.105) 105(-5.255,-3.135) 106(-5.255,3.105) 107(-5.755,-3.135) 108(-5.755,3.105) 109(-6.255,-3.135) 110(-6.255,3.105) 111(-6.755,-3.135) 112(-6.755,3.105) 113(-7.255,-3.135) 114(-7.255,3.105) 115(-7.755,-3.135) 116(-7.755,3.105) 117(-8.255,-3.135) 118(-8.255,3.105) 119(-8.755,-3.135) 120(-8.755,3.105) 121(-9.255,-3.135) 122(-9.255,3.105) 123(-9.755,-3.135) 124(-9.755,3.105) 125(-10.255,-3.135) 126(-10.255,3.105) 127(-10.755,-3.135) 128(-10.755,3.105) 129(-11.255,-3.135) 130(-11.255,3.105) 131(-11.755,-3.135) 132(-11.755,3.105) 133(-12.255,-3.135) 134(-12.255,3.105) 135(-12.755,-3.135) 136(-12.755,3.105) 137(-13.255,-3.135) 138(-13.255,3.105) 139(-13.755,-3.135) 140(-13.755,3.105) 141(-14.255,-3.135) 142(-14.255,3.105) 143(-14.755,-3.135) 144(-14.755,3.105) 145(-15.255,-3.135) 146(-15.255,3.105) 147(-15.755,-3.135) 148(-15.755,3.105) 149(-16.255,-3.135) 150(-16.255,3.105) 151(-16.755,-3.135) 152(-16.755,3.105) 153(-17.255,-3.135) 154(-17.255,3.105) 155(-17.755,-3.135) 156(-17.755,3.105) 157(-18.255,-3.135) 158(-18.255,3.105) 159(-18.755,-3.135) 160(-18.755,3.105) 161(-19.255,-3.135) 162(-19.255,3.105) 163(-19.755,-3.135) 164(-19.755,3.105) 165(-20.255,-3.135) 166(-20.255,3.105) 167(-20.755,-3.135) 168(-20.755,3.105)
Top Layer:
  region: 25.35,-1.55 25.35,1.55 23.75,1.55 23.75,-1.55
  region: -23.75,-1.55 -23.75,1.55 -25.35,1.55 -25.35,-1.55
Top Overlay:
  region: -23.15,1.625 -23.15,-1.7 23.15,-1.7 23.15,1.625
  lines w0.15: -24.55,-2.95 -24.55,-3.65 -23.45,-3.65 ; -24.55,2.95 -24.55,3.65 -23.45,3.65 ; -19,-4.25 -19,-4 ; -19,4 -19,4.25 ; -16.525,-4.25 -16.525,-4 ; -16.525,4 -16.525,4.25 ; -14.025,-4.25 -14.025,-4 ; -14.025,4 -14.025,4.25 ; -11.525,-4.25 -11.525,-4 ; -11.525,4 -11.525,4.25 ; -9.025,-4.25 -9.025,-4 ; -9.025,4 -9.025,4.25 ; -6.525,-4.25 -6.525,-4 ; -6.525,4 -6.525,4.25 ; -3.5,-4.225 -3.5,-3.975 ; -3.5,4.025 -3.5,4.275 ; -1,-4.225 -1,-3.975 ; -1,4.025 -1,4.275 ; 1.5,-4.25 1.5,-4 ; 1.5,4 1.5,4.25 ; 4,-4.25 4,-4 ; 4,4 4,4.25 ; 6.5,-4.25 6.5,-4 ; 6.5,4 6.5,4.25 ; 8.5,-4.25 8.5,-4 ; 8.5,4 8.5,4.25 ; 11,-4.25 11,-4 ; 11,4 11,4.25 ; 13.5,-4.25 13.5,-4 ; 13.5,4 13.5,4.25 ; 16,-4.25 16,-4 ; 16,4 16,4.25 ; 18.5,-4.25 18.5,-4 ; 18.5,4 18.5,4.25 ; 21.025,3.655 24.55,3.655 24.55,1.66 ; 21.125,-3.65 24.55,-3.65 24.55,-1.675 ; 21.193,-4.184 21.829,-4.396 21.405,-4.82 21.193,-4.184
  text "168" at -21.805,5.22 h0.6
  text "2" at 21.1,4.4 h0.6
  text "167" at -21.75,-3.875 h0.6
Mechanical 11:
  lines w0.005: -24.55,-3.65 24.55,3.65 ; -24.55,3.65 24.55,-3.65
Mechanical 15:
  lines w0.1: -5.355,3.055 -4.105,3.055 ; -4.73,2.43 -4.73,3.68 ; -13.23,0.055 3.77,0.055 3.77,6.055 -12.23,6.055 -13.23,6.055 -13.23,0.055
Mechanical 17:
  text ".Designator" at -4.675,4.85 h2.1
3D body "FX10A-168S-SV.stp": height 3.17, standoff -0.63, extent -24.55,-3.65 24.55,3.65

## INDC2720X12L [mm]
pads (2):
  rect 0.99x2.12 smd: 1(-1.085,0) 2(1.085,0)
Top Overlay:
  lines w0.2: -0.2,-0.96 0.2,-0.96 ; -0.2,0.96 0.2,0.96
Mechanical 13:
  lines w0.1: -1.4,-1.1 1.4,-1.1 1.4,1.1 -1.4,1.1 -1.4,-1.1
Mechanical 15:
  lines w0.05: -1.7,-1.2 1.7,-1.2 1.7,1.2 -1.7,1.2 -1.7,-1.2
  lines w0.1: -0.5,0 0.5,0 ; 0,-0.5 0,0.5
3D body: height 1.2, standoff 0, extent 0.8,-1.1 1.4,1.1
3D body: height 1.2, standoff 0, extent -1.4,-1.1 -0.8,1.1
3D body: height 1.2, standoff 0, extent -0.8,-1.1 0.8,1.1

## INDP6965X30L [mm]
pads (2):
  rect 3.2x3.25 smd: 1(-2.15,0) 2(2.15,0)
Top Overlay:
  lines w0.2: -3.45,-2.025 -3.45,-3.25 3.45,-3.25 3.45,-2.025 ; -3.45,2.025 -3.45,3.25 3.45,3.25 3.45,2.025
Mechanical 13:
  lines w0.1: -3.43,-3.235 3.43,-3.235 3.43,3.235 -3.43,3.235 -3.43,-3.235
Mechanical 15:
  lines w0.05: -3.85,-3.35 3.85,-3.35 3.85,3.35 -3.85,3.35 -3.85,-3.35
  lines w0.1: -0.5,0 0.5,0 ; 0,-0.5 0,0.5
3D body: height 3, standoff 0, extent -3.43,-3.235 3.43,3.235

## IR3859 [mm]
pads (17):
  rect 0.75x0.25 smd: 1(0,0) 2(0,-0.5) 3(0,-1) 4(0,-1.5) 5(0,-2) 6(0,-2.5) 7(0,-3)
  rect 0.25x0.75 smd: 8(0.78,-3.425) 9(1.28,-3.425) 10(1.78,-3.425) 14(1.78,0.425) 15(1.28,0.425) 16(0.78,0.425)
  rect 1.95x0.8 smd: 11(3.65,-3.395)
  rect 2.82x1.62 smd: 12(3.84,-1.785)
  rect 1.95x1.37 smd: 13(3.65,0.115)
  rect 1.2x2.19 smd: 17(1.3,-1.5)
Top Overlay:
  lines w0.2: 0,-3.41 4.915,-3.41 4.915,0.405 0.405,0.405 0,0 0,-3.41
Mechanical 11:
  pour cut-out: 2.975,-3.795 3.225,-3.795 3.225,-3.395 2.975,-3.395
  pour cut-out: 3.525,-3.795 3.775,-3.795 3.775,-3.395 3.525,-3.395
  pour cut-out: 4.075,-3.795 4.325,-3.795 4.325,-3.395 4.075,-3.395
  pour cut-out: 4.065,0.4 4.315,0.4 4.315,0.8 4.065,0.8
  pour cut-out: 3.515,0.4 3.765,0.4 3.765,0.8 3.515,0.8
  pour cut-out: 2.965,0.4 3.215,0.4 3.215,0.8 2.965,0.8
  pour cut-out: 5.25,-1.635 5.25,-1.275 4.85,-1.275 4.85,-1.635
  pour cut-out: 5.25,-2.295 5.25,-1.935 4.85,-1.935 4.85,-2.295
Mechanical 17:
  text ".Designator" at -0.6,1.3 h2.1
3D body: height 1, standoff 0.05, extent 0,-3.41 4.915,0.43